# EAGLE library part 236-412 (library con-wago-508)
Terminal Strips 2.5 mm2/AWG 12, Series 236, Pin Spacings 5/5.08 mm Source: Data sheet <http://www.farnell.com/datasheets/63479.pdf>
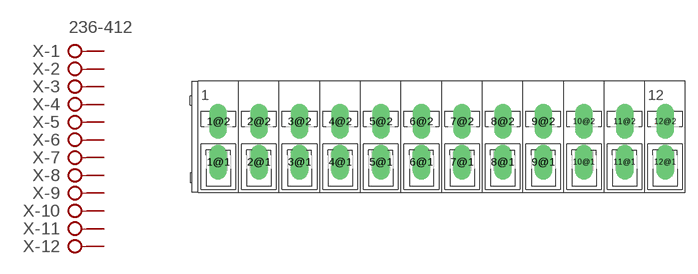
[diagram p5: symbol with the pads of 236-412; footprint 236-412]

Designator prefix X; gates -1=KL+V2 -2=KL+2 -3=KL+2 -4=KL+2 -5=KL+2 -6=KL+2 -7=KL+2 -8=KL+2 -9=KL+2 -10=KL+2 -11=KL+2 -12=KL+2

## 236-412 (MF: Wago Corporation; MPN: 0236-0412; OC_FARNELL: 1283531; OC_NEWARK: 79K2064)  [236-412]
1@1  -1:KL1  pas
1@2  -1:KL2  pas
2@1  -2:KL1  pas
2@2  -2:KL2  pas
3@1  -3:KL1  pas
3@2  -3:KL2  pas
4@1  -4:KL1  pas
4@2  -4:KL2  pas
5@1  -5:KL1  pas
5@2  -5:KL2  pas
6@1  -6:KL1  pas
6@2  -6:KL2  pas
7@1  -7:KL1  pas
7@2  -7:KL2  pas
8@1  -8:KL1  pas
8@2  -8:KL2  pas
9@1  -9:KL1  pas
9@2  -9:KL2  pas
10@1  -10:KL1  pas
10@2  -10:KL2  pas
11@1  -11:KL1  pas
11@2  -11:KL2  pas
12@1  -12:KL1  pas
12@2  -12:KL2  pas

## Footprint 236-412 (pad centres in mm)
Terminal Strips 2.5 mm2/AWG 12, Series 236, Pin Spacings 5/5.08 mm Source: Data sheet <http://www.farnell.com/datasheets/63479.pdf>
drill 1.118 pad 2.184 long: 1@1 0,-2.54; 1@2 0,2.54; 2@1 5.08,-2.54; 2@2 5.08,2.54; 3@1 10.16,-2.54; 3@2 10.16,2.54; 4@1 15.24,-2.54; 4@2 15.24,2.54; 5@1 20.32,-2.54; 5@2 20.32,2.54; 6@1 25.4,-2.54; 6@2 25.4,2.54; 7@1 30.48,-2.54; 7@2 30.48,2.54; 8@1 35.56,-2.54; 8@2 35.56,2.54; 9@1 40.64,-2.54; 9@2 40.64,2.54; 10@1 45.72,-2.54; 10@2 45.72,2.54; 11@1 50.8,-2.54; 11@2 50.8,2.54; 12@1 55.88,-2.54; 12@2 55.88,2.54